# EAGLE library part SWITCH-DPDT (library mastrogippo)
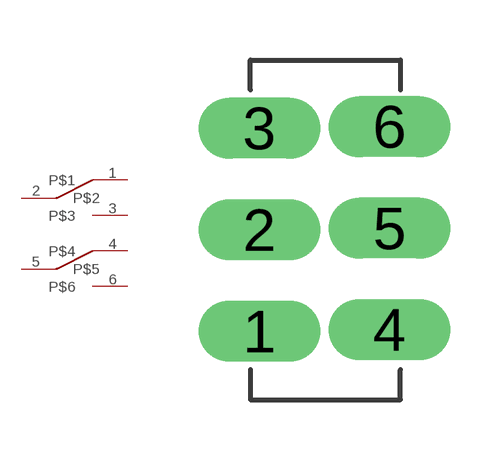
[diagram p7: symbol with the pads of SWITCH_DPDT; footprint SWITCH_DPDT]

Designator prefix -

## SWITCH-DPDT  [SWITCH_DPDT]
1  P$1
2  P$2
3  P$3
4  P$4
5  P$5
6  P$6

## Footprint SWITCH_DPDT (pad centres in mm)
drill 1.016 long: 1 -0.02,-0.04; 2 -0.02,2.5; 3 -0.02,5.04; 4 3.23,0; 5 3.23,2.54; 6 3.23,5.08